# EAGLE library part ARDUINO-CONN-10 (library MIDI router MCU parts)
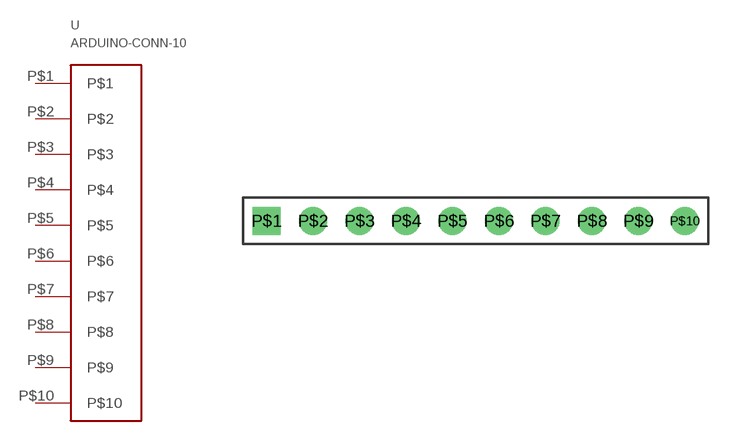
[diagram p9: symbol with the pads of ARDUINO-CONN-10; footprint ARDUINO-CONN-10]

Designator prefix -

## ARDUINO-CONN-10  [ARDUINO-CONN-10]
P$1  P$1
P$2  P$2
P$3  P$3
P$4  P$4
P$5  P$5
P$6  P$6
P$7  P$7
P$8  P$8
P$9  P$9
P$10  P$10

## Footprint ARDUINO-CONN-10 (pad centres in mm)
drill 1 square: P$1 0,0
drill 1: P$2 2.54,0; P$3 5.08,0; P$4 7.62,0; P$5 10.16,0; P$6 12.7,0; P$7 15.24,0; P$8 17.78,0; P$9 20.32,0; P$10 22.86,0